# Altium integrated library 二极管.IntLib: 6 symbols
Pins are listed as number, name and electrical type; pins without a type are passive.

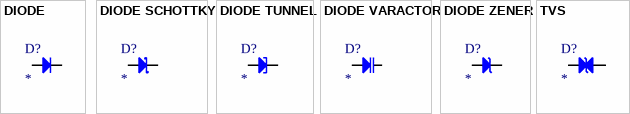
[diagram p0: symbols DIODE to TVS]

## DIODE
designator D?
普通二极管
footprint DO-15
footprint DO-15L
footprint DO-15LV
footprint DO-15V
footprint DO-27
footprint DO-27V
footprint DO-35
footprint DO-35V
footprint DO-41
footprint DO-41G
footprint DO-41GV
footprint DO-41V
footprint DO-201AD
footprint DO-201ADV
footprint LL34 (玻封二极管)
footprint SMA/DO-214AC (塑封二极管)
footprint SMB/DO-214AA (塑封二极管)
footprint SMC/DO-214AB (塑封二极管)
footprint SOD-123 (塑封二极管)
footprint SOD-323 (塑封二极管)
footprint SOD-523 (塑封二极管)
pins: A, K

## DIODE SCHOTTKY
designator D?
肖特基二极管
footprint DO-15
footprint DO-15L
footprint DO-15LV
footprint DO-15V
footprint DO-27
footprint DO-27V
footprint DO-35
footprint DO-35V
footprint DO-41
footprint DO-41G
footprint DO-41GV
footprint DO-41V
footprint DO-201AD
footprint DO-201ADV
footprint LL34 (玻封二极管)
footprint SMA/DO-214AC (塑封二极管)
footprint SMB/DO-214AA (塑封二极管)
footprint SMC/DO-214AB (塑封二极管)
footprint SOD-123 (塑封二极管)
footprint SOD-323 (塑封二极管)
footprint SOD-523 (塑封二极管)
pins: A, K

## DIODE TUNNEL
designator D?
隧道二极管
footprint DO-15
footprint DO-15L
footprint DO-15LV
footprint DO-15V
footprint DO-27
footprint DO-27V
footprint DO-35
footprint DO-35V
footprint DO-41
footprint DO-41G
footprint DO-41GV
footprint DO-41V
footprint DO-201AD
footprint DO-201ADV
footprint LL34 (玻封二极管)
footprint SMA/DO-214AC (塑封二极管)
footprint SMB/DO-214AA (塑封二极管)
footprint SMC/DO-214AB (塑封二极管)
footprint SOD-123 (塑封二极管)
footprint SOD-323 (塑封二极管)
footprint SOD-523 (塑封二极管)
pins: A, K

## DIODE VARACTOR
designator D?
变容二极管
footprint DO-15
footprint DO-15L
footprint DO-15LV
footprint DO-15V
footprint DO-27
footprint DO-27V
footprint DO-35
footprint DO-35V
footprint DO-41
footprint DO-41G
footprint DO-41GV
footprint DO-41V
footprint DO-201AD
footprint DO-201ADV
footprint LL34 (玻封二极管)
footprint SMA/DO-214AC (塑封二极管)
footprint SMB/DO-214AA (塑封二极管)
footprint SMC/DO-214AB (塑封二极管)
footprint SOD-123 (塑封二极管)
footprint SOD-323 (塑封二极管)
footprint SOD-523 (塑封二极管)
pins: A, K

## DIODE ZENER
designator D?
稳压二极管
footprint DO-15
footprint DO-15L
footprint DO-15LV
footprint DO-15V
footprint DO-27
footprint DO-27V
footprint DO-35
footprint DO-35V
footprint DO-41
footprint DO-41G
footprint DO-41GV
footprint DO-41V
footprint DO-201AD
footprint DO-201ADV
footprint LL34 (玻封二极管)
footprint SMA/DO-214AC (塑封二极管)
footprint SMB/DO-214AA (塑封二极管)
footprint SMC/DO-214AB (塑封二极管)
footprint SOD-123 (塑封二极管)
footprint SOD-323 (塑封二极管)
footprint SOD-523 (塑封二极管)
pins: A, K

## TVS
designator D?
双向瞬态抑制二极管
footprint DO-15
footprint DO-15L
footprint DO-15LV
footprint DO-15V
footprint DO-27
footprint DO-27V
footprint DO-35
footprint DO-35V
footprint DO-41
footprint DO-41G
footprint DO-41GV
footprint DO-41V
footprint DO-201AD
footprint DO-201ADV
footprint LL34 (玻封二极管)
footprint SMA/DO-214AC (塑封二极管)
footprint SMB/DO-214AA (塑封二极管)
footprint SMC/DO-214AB (塑封二极管)
footprint SOD-123 (塑封二极管)
footprint SOD-323 (塑封二极管)
footprint SOD-523 (塑封二极管)
pins: A, K